# EAGLE library part TI_NATIONAL_SEMICONDUCTOR_LM5085MM-NOPB (library LM5085)
PM-SWREG-LM5085-8
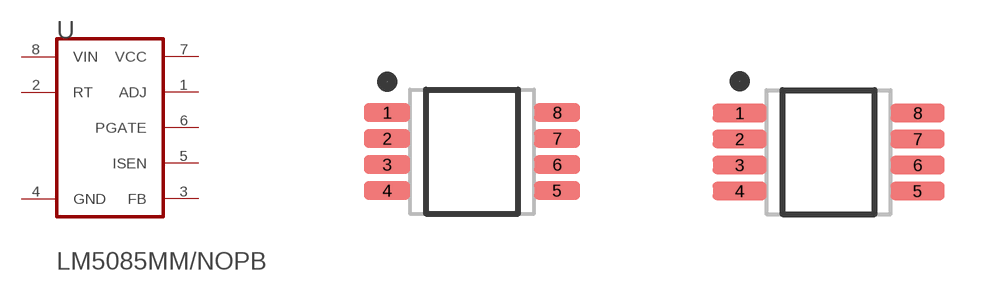
[diagram p0: symbol with the pads of TI_NATIONAL_SEMICONDUCTOR_LM5085MM-NOPB_0; footprints TI_NATIONAL_SEMICONDUCTOR_LM5085MM-NOPB_0, TI_NATIONAL_SEMICONDUCTOR_LM5085MM-NOPB_1]

Designator prefix U

## TI_NATIONAL_SEMICONDUCTOR_LM5085MM-NOPBTI_NATIONAL_SEMICONDUCTOR_LM5085MM-NOPB_0_0 (CIIVA_IDS: 1480259; CODE__JEDEC: MO-187-AA; COMPONENT_LINK_1_DESCRIPTION: Datasheet URL; COMPONENT_LINK_1_URL: http://www.ti.com/general/docs/lit/getliterature.tsp?genericPartNumber=LM5085&fileType=pdf; COMP_TYPE: Switcher; FOOTPRINT_VARIANT_NAME_0: Level C; FOOTPRINT_VARIANT_NAME_1: Level B; FOOTPRINT_VARIANT_NAME_2: Level A; IMPORTED: yes; IMPORTED_FROM: vault; IMPORT_TS: 1521843347; MF: TI National Semiconductor; MPN: LM5085MM/NOPB; PACKAGE: DGK0008A; PACKAGE_DESCRIPTION: MINI SOIC, .118 x .118 x .034in, 8 Lead, .0256in Pitch; PACKAGE_TOP_MARKING: ZXTT*SSTB; PIN_COUNT: 8; POWER_WISE: Y; PREFIX: U; RELEASE_DATE: 1464095424; ROHS: Yes; VAULT_GUID: D98874AE-3CDE-427A-8684-C942B0CAD19D; VAULT_REVISION: 630B4D72-397E-4948-96D0-B42EDD290CB1)  [TI_NATIONAL_SEMICONDUCTOR_LM5085MM-NOPB_0]
1  ADJ  pas
2  RT  pas
3  FB  pas
4  GND  pwr
5  ISEN  pas
6  PGATE  pas
7  VCC  pwr
8  VIN  pas

## TI_NATIONAL_SEMICONDUCTOR_LM5085MM-NOPBTI_NATIONAL_SEMICONDUCTOR_LM5085MM-NOPB_0_1 (CIIVA_IDS: 1480259; CODE__JEDEC: MO-187-AA; COMPONENT_LINK_1_DESCRIPTION: Datasheet URL; COMPONENT_LINK_1_URL: http://www.ti.com/general/docs/lit/getliterature.tsp?genericPartNumber=LM5085&fileType=pdf; COMP_TYPE: Switcher; FOOTPRINT_VARIANT_NAME_0: Level C; FOOTPRINT_VARIANT_NAME_1: Level B; FOOTPRINT_VARIANT_NAME_2: Level A; IMPORTED: yes; IMPORTED_FROM: vault; IMPORT_TS: 1521843347; MF: TI National Semiconductor; MPN: LM5085MM/NOPB; PACKAGE: DGK0008A; PACKAGE_DESCRIPTION: MINI SOIC, .118 x .118 x .034in, 8 Lead, .0256in Pitch; PACKAGE_TOP_MARKING: ZXTT*SSTB; PIN_COUNT: 8; POWER_WISE: Y; PREFIX: U; RELEASE_DATE: 1464095424; ROHS: Yes; VAULT_GUID: D98874AE-3CDE-427A-8684-C942B0CAD19D; VAULT_REVISION: 630B4D72-397E-4948-96D0-B42EDD290CB1)  [TI_NATIONAL_SEMICONDUCTOR_LM5085MM-NOPB_1]
Pads as for TI_NATIONAL_SEMICONDUCTOR_LM5085MM-NOPB_0

## TI_NATIONAL_SEMICONDUCTOR_LM5085MM-NOPBTI_NATIONAL_SEMICONDUCTOR_LM5085MM-NOPB_0_2 (CIIVA_IDS: 1480259; CODE__JEDEC: MO-187-AA; COMPONENT_LINK_1_DESCRIPTION: Datasheet URL; COMPONENT_LINK_1_URL: http://www.ti.com/general/docs/lit/getliterature.tsp?genericPartNumber=LM5085&fileType=pdf; COMP_TYPE: Switcher; FOOTPRINT_VARIANT_NAME_0: Level C; FOOTPRINT_VARIANT_NAME_1: Level B; FOOTPRINT_VARIANT_NAME_2: Level A; IMPORTED: yes; IMPORTED_FROM: vault; IMPORT_TS: 1521843347; MF: TI National Semiconductor; MPN: LM5085MM/NOPB; PACKAGE: DGK0008A; PACKAGE_DESCRIPTION: MINI SOIC, .118 x .118 x .034in, 8 Lead, .0256in Pitch; PACKAGE_TOP_MARKING: ZXTT*SSTB; PIN_COUNT: 8; POWER_WISE: Y; PREFIX: U; RELEASE_DATE: 1464095424; ROHS: Yes; VAULT_GUID: D98874AE-3CDE-427A-8684-C942B0CAD19D; VAULT_REVISION: 630B4D72-397E-4948-96D0-B42EDD290CB1)  [TI_NATIONAL_SEMICONDUCTOR_LM5085MM-NOPB_2]
Pads as for TI_NATIONAL_SEMICONDUCTOR_LM5085MM-NOPB_0

## Footprint TI_NATIONAL_SEMICONDUCTOR_LM5085MM-NOPB_0 (pad centres in mm)
PM-SWREG-LM5085-8
smd 1.15 x 0.45: 1 -2.125,0.975; 2 -2.125,0.325; 3 -2.125,-0.325; 4 -2.125,-0.975; 5 2.125,-0.975; 6 2.125,-0.325; 7 2.125,0.325; 8 2.125,0.975

## Footprint TI_NATIONAL_SEMICONDUCTOR_LM5085MM-NOPB_1 (pad centres in mm)
PM-SWREG-LM5085-8
smd 1.35 x 0.45: 1 -2.225,0.975; 2 -2.225,0.325; 3 -2.225,-0.325; 4 -2.225,-0.975; 5 2.225,-0.975; 6 2.225,-0.325; 7 2.225,0.325; 8 2.225,0.975

## Footprint TI_NATIONAL_SEMICONDUCTOR_LM5085MM-NOPB_2 (pad centres in mm)
PM-SWREG-LM5085-8
smd 1.55 x 0.45: 1 -2.325,0.975; 2 -2.325,0.325; 3 -2.325,-0.325; 4 -2.325,-0.975; 5 2.325,-0.975; 6 2.325,-0.325; 7 2.325,0.325; 8 2.325,0.975